# EAGLE library part ATP3012F5-PU (library ATP)
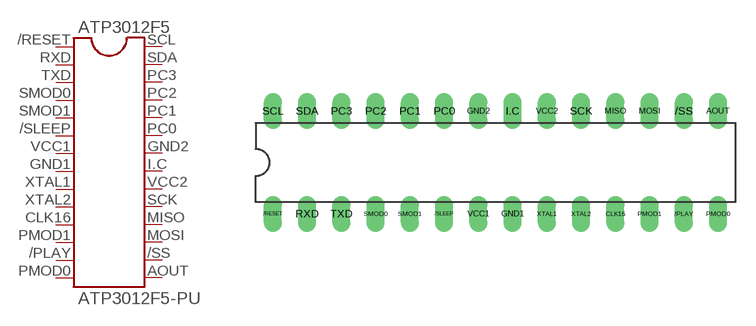
[diagram p0: symbol with the pads of ATP3012F5-PU; footprint ATP3012F5-PU]

Designator prefix ATP3012F5

## ATP3012F5-PU  [ATP3012F5-PU]
/PLAY  13  pas
/RESET  1  pas
/SLEEP  6  pas
/SS  16  pas
AOUT  15  pas
CLK16  11  pas
GND1  8  pas
GND2  22  pas
I.C  21  pas
MISO  18  pas
MOSI  17  pas
PC0  23  pas
PC1  24  pas
PC2  25  pas
PC3  26  pas
PMOD0  14  pas
PMOD1  12  pas
RXD  2  pas
SCK  19  pas
SCL  28  pas
SDA  27  pas
SMOD0  4  pas
SMOD1  5  pas
TXD  3  pas
VCC1  7  pas
VCC2  20  pas
XTAL1  9  pas
XTAL2  10  pas

## Footprint ATP3012F5-PU (pad centres in mm)
drill 0.813 long: /PLAY 13.97,-3.81; /RESET -16.51,-3.81; /SLEEP -3.81,-3.81; /SS 13.97,3.81; AOUT 16.51,3.81; CLK16 8.89,-3.81; GND1 1.27,-3.81; GND2 -1.27,3.81; I.C 1.27,3.81; MISO 8.89,3.81; MOSI 11.43,3.81; PC0 -3.81,3.81; PC1 -6.35,3.81; PC2 -8.89,3.81; PC3 -11.43,3.81; PMOD0 16.51,-3.81; PMOD1 11.43,-3.81; RXD -13.97,-3.81; SCK 6.35,3.81; SCL -16.51,3.81; SDA -13.97,3.81; SMOD0 -8.89,-3.81; SMOD1 -6.35,-3.81; TXD -11.43,-3.81; VCC1 -1.27,-3.81; VCC2 3.81,3.81; XTAL1 3.81,-3.81; XTAL2 6.35,-3.81